# Altium footprint library Fuse.PcbLib: 1 footprints
Each footprint in its own frame and in the unit in brackets; x right, y up, seen from the top. Pads: shape width x height; smd on the part's side, far side on the other; paste and mask are expansions set on the pad; w line width, h text height; cw(c..) or ccw(c..) is an arc to the next point about the centre after c.
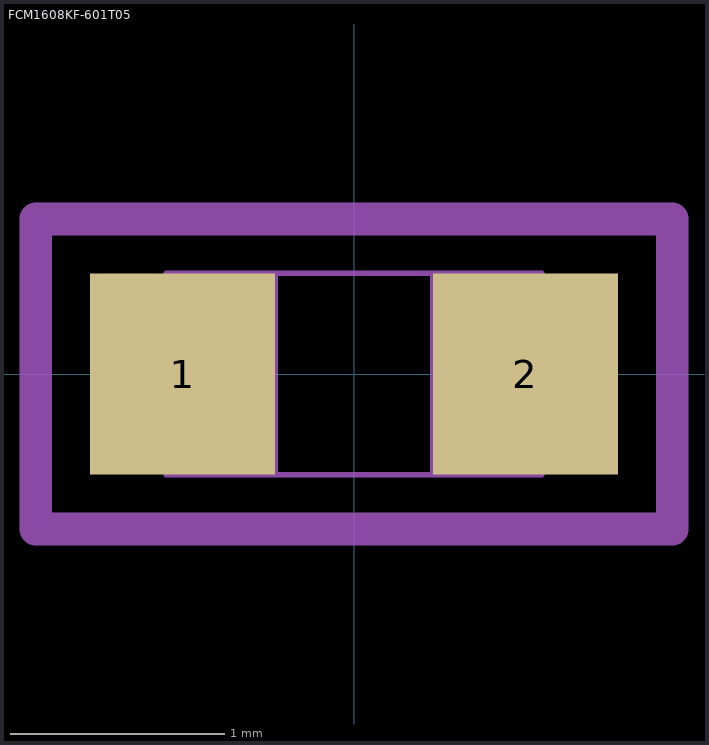
[diagram p0: the footprint, top view; thin cyan lines are the x and y axes]

## FCM1608KF-601T05 [mil]
pads (2):
  rect 34x37 smd paste+0 mask+0: 1(-31.5,0) 2(31.5,0)
Mechanical 13:
  lines w1: -34.5,-18.5 -34.5,18.5 ; -34.5,-18.5 -14.5,-18.5 -14.5,18.5 -34.5,18.5 ; -34.5,-18.5 34.5,-18.5 ; -34.5,-18.5 -34.5,18.5 ; -34.5,18.5 34.5,18.5 ; 34.5,-18.5 14.5,-18.5 14.5,18.5 34.5,18.5 ; 34.5,-18.5 34.5,18.5 ; 34.5,-18.5 34.5,18.5
Mechanical 15:
  lines w6: -58.5,-28.5 -58.5,28.5 58.5,28.5 58.5,-28.5 -58.5,-28.5
3D body "IND_FCM1608_TTC.step": height 37.01, standoff 0, extent -34.49,-18.5 34.49,18.5